# EAGLE library part CONN_10 (library Terminal_Connectors)
10-Way Male Terminal Block 3.5mm E.g. 4UCON Part 19854 Matching Pluggable Screw Clamp Female is Part 11233
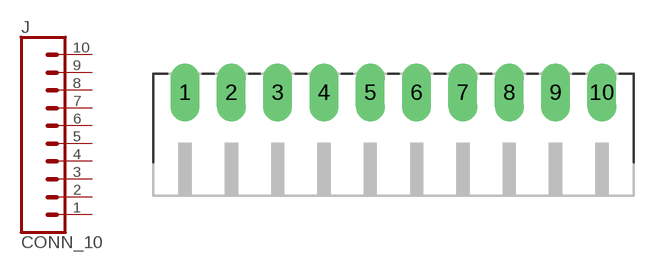
[diagram p0: symbol with the pads of 1X10_SCREW_TERMINAL_3.5MM; footprint 1X10_SCREW_TERMINAL_3.5MM]

Designator prefix J

## CONN_10  [1X10_SCREW_TERMINAL_3.5MM]
1  1  pas
2  2  pas
3  3  pas
4  4  pas
5  5  pas
6  6  pas
7  7  pas
8  8  pas
9  9  pas
10  10  pas

## Footprint 1X10_SCREW_TERMINAL_3.5MM (pad centres in mm)
drill 1.4 pad 2.2 long: 1 -15.75,2.8; 2 -12.25,2.8; 3 -8.75,2.8; 4 -5.25,2.8; 5 -1.75,2.8; 6 1.75,2.8; 7 5.25,2.8; 8 8.75,2.8; 9 12.25,2.8; 10 15.75,2.8